# Altium footprint library ACTION_分立元件.PcbLib: 65 footprints (part 5 of 5)
Each footprint in its own frame and in the unit in brackets; x right, y up, seen from the top. Pads: shape width x height; smd on the part's side, far side on the other; paste and mask are expansions set on the pad; w line width, h text height; cw(c..) or ccw(c..) is an arc to the next point about the centre after c.
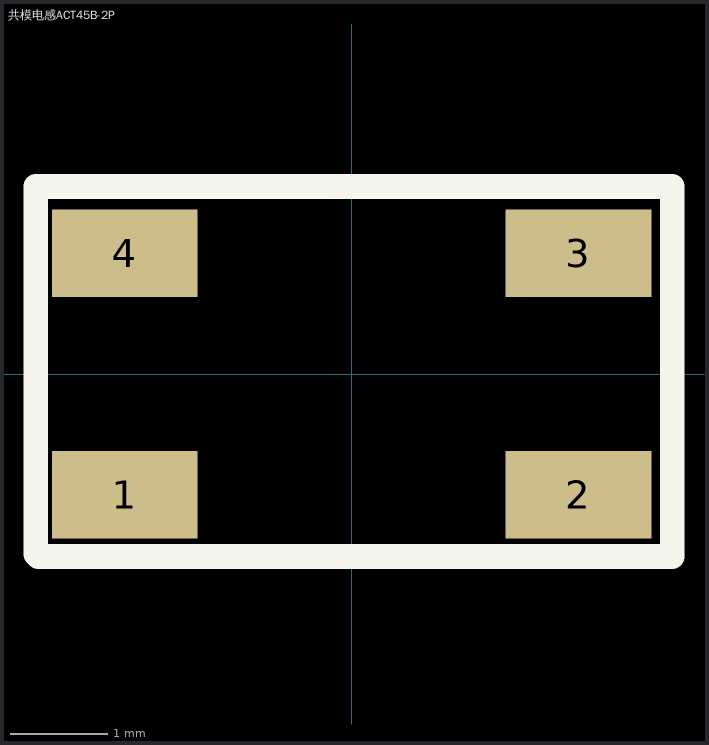
[diagram p4: the footprint, top view; thin cyan lines are the x and y axes]

## 共模电感ACT45B-2P [mm]
pads (4):
  rect 1.5x0.9 smd: 1(-2.337,-1.245) 2(2.337,-1.245) 3(2.337,1.245) 4(-2.337,1.245)
Top Overlay:
  lines w0.254: -3.251,-1.854 -3.251,1.93 3.226,1.93 3.302,1.93 3.302,-1.88 -3.226,-1.88 -3.251,-1.854